# EAGLE library part HCPL-3120-300E (library adafruit)
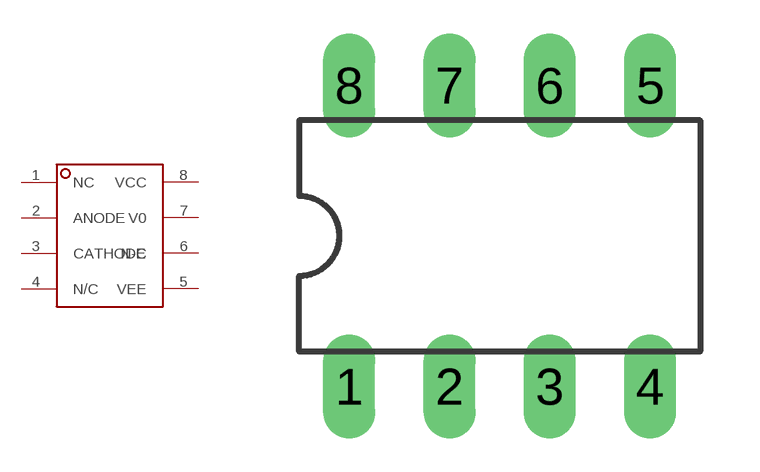
[diagram p115: symbol with the pads of DIL08; footprint DIL08]

Designator prefix -

## HCPL-3120-300E  [DIL08]
1  NC
2  ANODE
3  CATHODE
4  N/C
5  VEE
6  N-C
7  V0
8  VCC

## Footprint DIL08 (pad centres in mm)
Dual In Line Package
drill 0.813 long: 1 -3.81,-3.81; 2 -1.27,-3.81; 3 1.27,-3.81; 4 3.81,-3.81; 5 3.81,3.81; 6 1.27,3.81; 7 -1.27,3.81; 8 -3.81,3.81